# EAGLE library part ISEN_CQ2092 (library wheat)
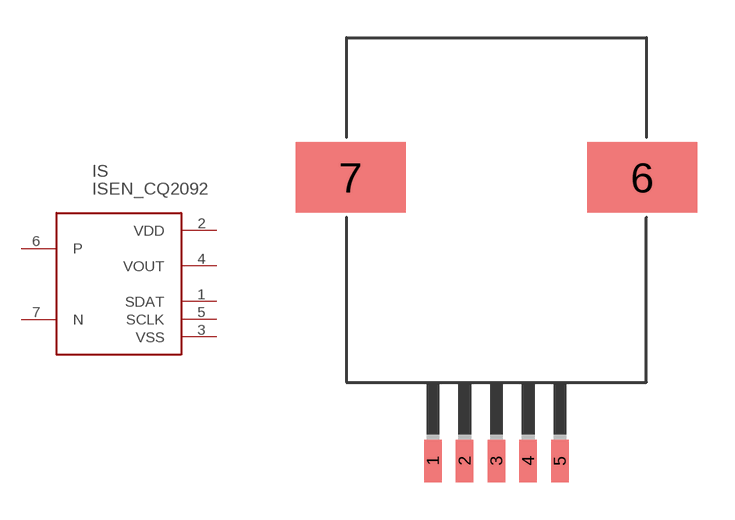
[diagram p190: symbol with the pads of ISEN_CQ2092; footprint ISEN_CQ2092]

Designator prefix IS

## ISEN_CQ2092  [ISEN_CQ2092]
1  SDAT
2  VDD
3  VSS
4  VOUT
5  SCLK
6  P
7  N

## Footprint ISEN_CQ2092 (pad centres in mm)
smd 0.7 x 1.7: 1 -2.54,-11.35; 2 -1.27,-11.35; 3 0,-11.35; 4 1.27,-11.35; 5 2.54,-11.35
smd 4.4 x 2.825: 6 5.838,0; 7 -5.838,0